# EAGLE library part 87340-06 (library untitled)
RECEPTACAL
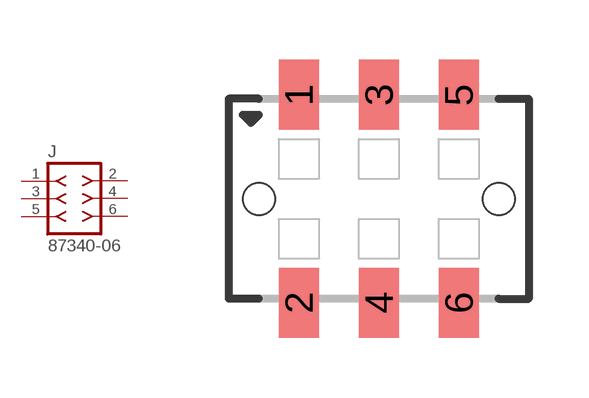
[diagram p235: symbol with the pads of 87340-06; footprint 87340-06]

Designator prefix J

## 87340-06  [87340-06]
1  1  pas
2  2  pas
3  3  pas
4  4  pas
5  5  pas
6  6  pas

## Footprint 87340-06 (pad centres in mm)
RECEPTACAL SMD Dual Row, Vertical, Low Profile
smd 1 x 1.75: 1 -2,2.6; 2 -2,-2.6; 3 0,2.6; 4 0,-2.6; 5 2,2.6; 6 2,-2.6
hole 0.8 at -3,0
hole 0.8 at 3,0